# Altium footprint library con-erni.PCBLIB: 13 footprints (part 2 of 2)
Each footprint in its own frame and in the unit in brackets; x right, y up, seen from the top. Pads: shape width x height; smd on the part's side, far side on the other; paste and mask are expansions set on the pad; w line width, h text height; cw(c..) or ccw(c..) is an arc to the next point about the centre after c.
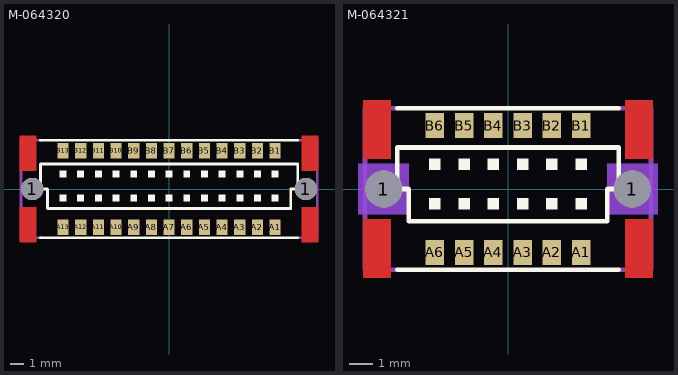
[diagram p1: the footprints below, top view; thin cyan lines are the x and y axes]

## M-064320 [mil]
pads (28):
  round 62.99 hole 62.99: 1(-387.01,0) 1(387.01,0)
  rect 31.5x43.31 smd: A1(300,-108.27) A2(250,-108.27) A3(200,-108.27) A4(150,-108.27) A5(100,-108.27) A6(50,-108.27) A7(0,-108.27) A8(-50,-108.27) A9(-100,-108.27) A10(-150,-108.27) A11(-200,-108.27) A12(-250,-108.27) A13(-300,-108.27) B1(300,108.27) B2(250,108.27) B3(200,108.27) B4(150,108.27) B5(100,108.27) B6(50,108.27) B7(0,108.27) B8(-50,108.27) B9(-100,108.27) B10(-150,108.27) B11(-200,108.27) B12(-250,108.27) B13(-300,108.27)
Top Layer:
  rectangle: 375,-151.57 422.64,-51.18
  rectangle: 375,51.18 422.64,151.57
  rectangle: -422.64,51.18 -375,151.57
  rectangle: -422.64,-151.57 -375,-51.18
Top Overlay:
  rectangle: 40.16,32.28 59.84,51.97
  rectangle: 90.16,32.28 109.84,51.97
  rectangle: 140.16,32.28 159.84,51.97
  rectangle: 190.16,32.28 209.84,51.97
  rectangle: 240.16,32.28 259.84,51.97
  rectangle: 290.16,32.28 309.84,51.97
  rectangle: 40.16,-34.84 59.84,-15.16
  rectangle: 90.16,-34.84 109.84,-15.16
  rectangle: 140.16,-34.84 159.84,-15.16
  rectangle: 190.16,-34.84 209.84,-15.16
  rectangle: 240.16,-34.84 259.84,-15.16
  rectangle: 290.16,-34.84 309.84,-15.16
  rectangle: -259.84,32.28 -240.16,51.97
  rectangle: -209.84,32.28 -190.16,51.97
  rectangle: -159.84,32.28 -140.16,51.97
  rectangle: -109.84,32.28 -90.16,51.97
  rectangle: -59.84,32.28 -40.16,51.97
  rectangle: -9.84,32.28 9.84,51.97
  rectangle: -259.84,-34.84 -240.16,-15.16
  rectangle: -209.84,-34.84 -190.16,-15.16
  rectangle: -159.84,-34.84 -140.16,-15.16
  rectangle: -109.84,-34.84 -90.16,-15.16
  rectangle: -59.84,-34.84 -40.16,-15.16
  rectangle: -9.84,-34.84 9.84,-15.16
  rectangle: -309.84,32.28 -290.16,51.97
  rectangle: -309.84,-34.84 -290.16,-15.16
  lines w8: -363.98,-137.8 363.98,-137.8 ; -363.98,137.8 363.98,137.8 ; -363.98,0 -344.29,0 -344.29,-55.12 344.29,-55.12 344.29,0 363.98,0 363.98,70.87 -363.98,70.87 -363.98,0
Top Paste:
  rectangle: -421.06,52.66 -376.28,150.1
  rectangle: -421.06,-150.1 -376.28,-52.66
  rectangle: 376.28,-150.59 421.06,-53.15
  rectangle: 376.28,52.66 421.06,150.1
Top Solder:
  rectangle: -424.51,49.7 -373.82,153.05
  rectangle: -424.02,-153.05 -373.33,-49.7
  rectangle: 373.33,-153.05 424.02,-49.7
  rectangle: 373.33,49.7 424.02,153.05
Mechanical 16:
  lines w8: -363.98,-137.8 -419.09,-137.8 -419.09,137.8 -363.98,137.8 ; 363.98,-137.8 419.09,-137.8 419.09,137.8 363.98,137.8

## M-064321 [mil]
pads (14):
  round 62.99 hole 62.99: 1(-212.01,0) 1(212.01,0)
  rect 31.5x43.31 smd: A1(125,-108.27) A2(75,-108.27) A3(25,-108.27) A4(-25,-108.27) A5(-75,-108.27) A6(-125,-108.27) B1(125,108.27) B2(75,108.27) B3(25,108.27) B4(-25,108.27) B5(-75,108.27) B6(-125,108.27)
Top Layer:
  rectangle: 200,-151.57 247.64,-51.18
  rectangle: 200,51.18 247.64,151.57
  rectangle: -247.64,51.18 -200,151.57
  rectangle: -247.64,-151.57 -200,-51.18
Top Layer keep-out:
  rectangle: 169.29,-43.31 255.91,43.31
  rectangle: -255.91,-43.31 -169.29,43.31
Bottom Layer keep-out:
  rectangle: 169.29,-43.31 255.91,43.31
  rectangle: -255.91,-43.31 -169.29,43.31
Top Overlay:
  rectangle: -134.84,32.28 -115.16,51.97
  rectangle: -84.84,32.28 -65.16,51.97
  rectangle: -34.84,32.28 -15.16,51.97
  rectangle: 15.16,32.28 34.84,51.97
  rectangle: 65.16,32.28 84.84,51.97
  rectangle: 115.16,32.28 134.84,51.97
  rectangle: -134.84,-34.84 -115.16,-15.16
  rectangle: -84.84,-34.84 -65.16,-15.16
  rectangle: -34.84,-34.84 -15.16,-15.16
  rectangle: 15.16,-34.84 34.84,-15.16
  rectangle: 65.16,-34.84 84.84,-15.16
  rectangle: 115.16,-34.84 134.84,-15.16
  lines w8: -188.98,-137.8 188.98,-137.8 ; -188.98,137.8 188.98,137.8 ; -188.98,0 -169.29,0 -169.29,-55.12 169.29,-55.12 169.29,0 188.98,0 188.98,70.87 -188.98,70.87 -188.98,0
Top Paste:
  rectangle: -246.06,52.66 -201.28,150.1
  rectangle: -246.06,-150.1 -201.28,-52.66
  rectangle: 201.28,-150.59 246.06,-53.15
  rectangle: 201.28,52.66 246.06,150.1
Top Solder:
  rectangle: -249.51,49.7 -198.82,153.05
  rectangle: -249.02,-153.05 -198.33,-49.7
  rectangle: 198.33,-153.05 249.02,-49.7
  rectangle: 198.33,49.7 249.02,153.05
Mechanical 16:
  lines w8: -188.98,-137.8 -244.09,-137.8 -244.09,137.8 -188.98,137.8 ; 188.98,-137.8 244.09,-137.8 244.09,137.8 188.98,137.8
Via Holes:
  rectangle: 169.29,-43.31 255.91,43.31
  rectangle: -255.91,-43.31 -169.29,43.31